# EAGLE library part FTDI-SMD-HEADER (library mentor2)
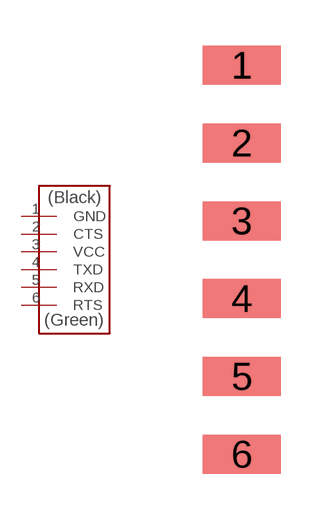
[diagram p5: symbol with the pads of 1X06-SMD; footprint 1X06-SMD]

Designator prefix -

## FTDI-SMD-HEADER  [1X06-SMD]
1  GND
2  CTS
3  VCC
4  TXD
5  RXD
6  RTS

## Footprint 1X06-SMD (pad centres in mm)
smd 2.54 x 1.27: 1 0,6.35; 2 0,3.81; 3 0,1.27; 4 0,-1.27; 5 0,-3.81; 6 0,-6.35